# EAGLE library part 1432УД17 (library operational-amplifier)
АЕЯР.431100.280-15ТУ 1432УД17У - широкополосный операционный усилитель с обратной связью по напряжению. Предназначены для применения в приемных трактах устройств связи и РЛС, в системах автоматического контроля и регулирования, в системах обработки аналоговых и аналого-цифровых сигналов. Достоинства: ► Полоса пропускания 320 МГц ► Максимальная скорость нарастания выходного сигнала 1000 В/мкс ► Ток потребления 19 мА ► Время установления 15 нс Производитель: ОАО «НПП «ПУЛЬСАР», г. Москва.
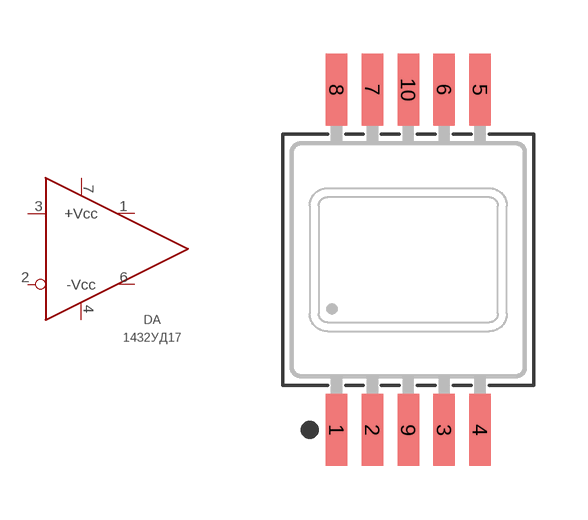
[diagram p9: symbol with the pads of H02.8-1B; footprint H02.8-1B]

Designator prefix DA

## 1432УД17У  [H02.8-1B]
1  OUT1  out
2  IN-  in
3  IN+  in
4  -VCC  pwr
6  OUT2  out
7  +VCC  pwr

## Footprint H02.8-1B (pad centres in mm)
smd 0.6 x 2: 1 -2,-4.75; 2 -1,-4.75; 3 1,-4.75; 4 2,-4.75; 5 2,4.75; 6 1,4.75; 7 -1,4.75; 8 -2,4.75; 9 0,-4.75; 10 0,4.75